# Altium footprint library VF10.PcbLib: 58 footprints (part 4 of 4)
Each footprint in its own frame and in the unit in brackets; x right, y up, seen from the top. Pads: shape width x height; smd on the part's side, far side on the other; paste and mask are expansions set on the pad; w line width, h text height; cw(c..) or ccw(c..) is an arc to the next point about the centre after c.
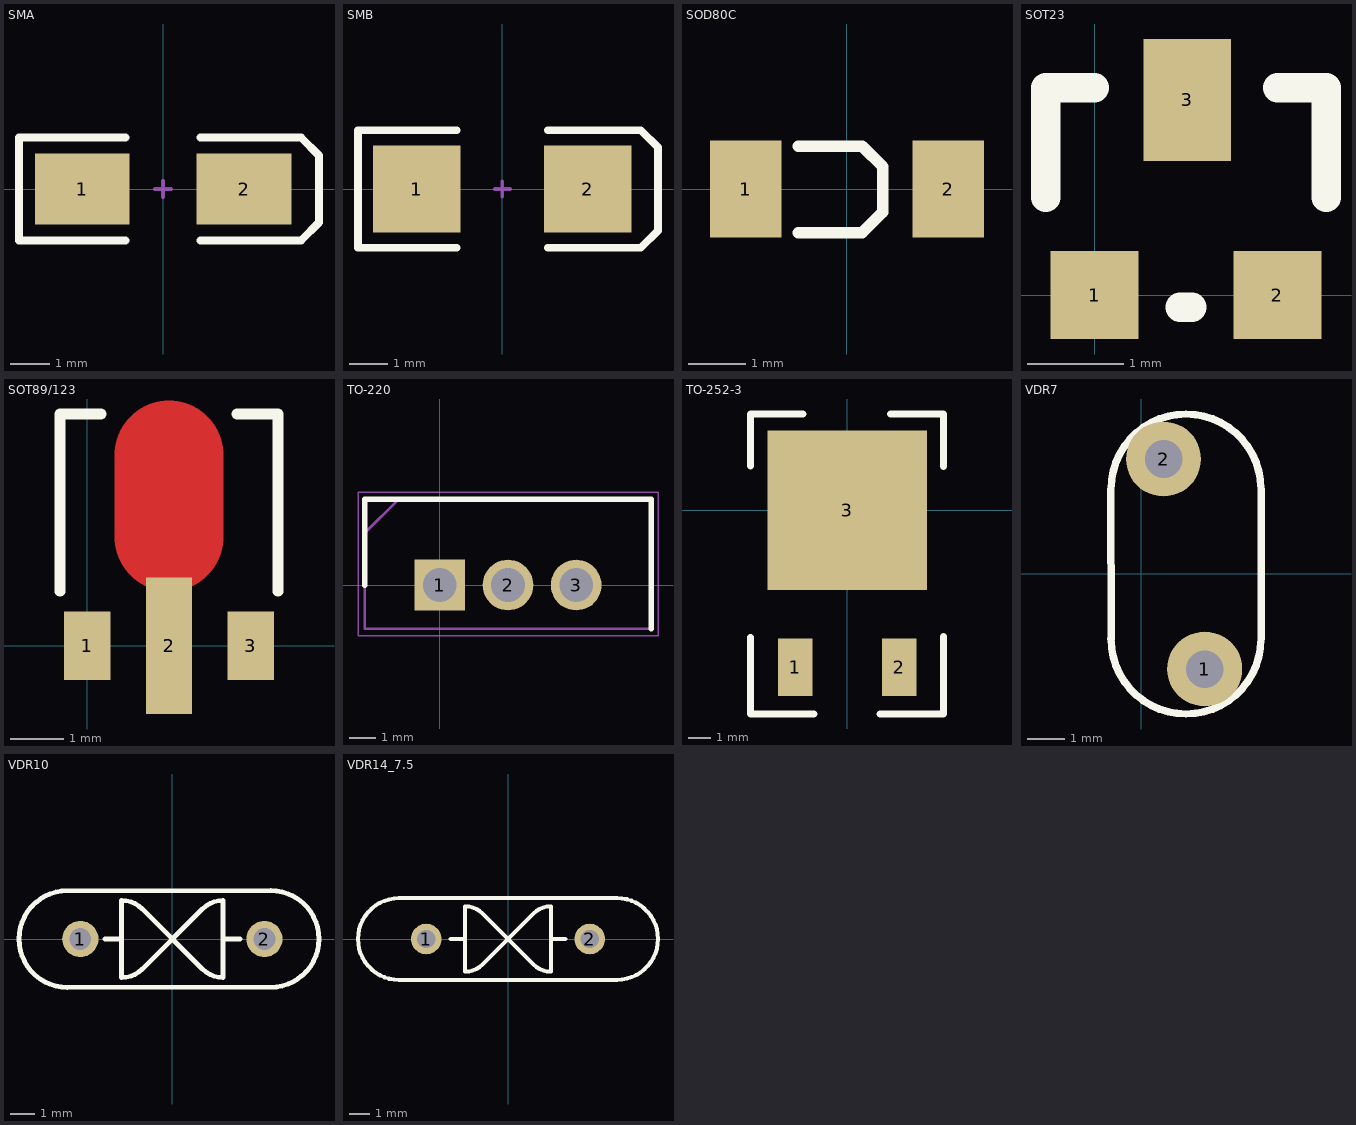
[diagram p3: the footprints below, top view; thin cyan lines are the x and y axes]

## SMA [mm] "DO-214-AC/SMA; 2 C-Bend Leads; Body 5 x 2.7 mm, inc. leads (LxW)"
height 2.44
pads (2):
  rect 2.4x1.8 smd: 1(-2.05,0) 2(2.05,0)
Top Overlay:
  lines w0.2: -0.95,-1.3 -3.65,-1.3 -3.65,1.3 -0.95,1.3 ; 0.95,-1.3 3.5,-1.3 3.95,-0.85 3.95,0.85 3.5,1.3 0.95,1.3
Mechanical 1:
  lines w0.1: -0.2,0 0.2,0 ; 0,-0.2 0,0.2
3D body "MRA4005T1G.stp": height 2.2, standoff 0, extent -2.605,-1.303 2.605,1.302

## SMB [mm] "DO-214-AA/SMB; 2 C-Bend Leads; Body 5.3 x 3.6 mm, inc. leads (LxW)"
height 2.54
pads (2):
  rect 2.3x2.3 smd: 1(-2.25,0) 2(2.25,0)
Top Overlay:
  lines w0.2: -1.2,-1.55 -3.8,-1.55 -3.8,1.55 -1.2,1.55 ; 1.2,-1.55 3.65,-1.55 4.1,-1.1 4.1,1.1 3.65,1.55 1.2,1.55
Mechanical 1:
  lines w0.1: -0.2,0 0.2,0 ; 0,-0.2 0,0.2
3D body "1SMB10CAT3G.stp": height 2.56, standoff 0, extent -2.7,-1.778 2.7,1.777

## SOD80C [mm] "Metal Electrode Face (MELF) Diode; Body 3.5 x 1.6 mm (LxDia)"
height 1.6
pads (2):
  rect 1.25x1.7 smd: 1(-1.775,0) 2(1.775,0)
Top Overlay:
  lines w0.2: -0.851,-0.767 0.265,-0.767 0.627,-0.405 0.627,-0.017 ; -0.85,0.75 0.266,0.75 0.628,0.388 0.628,0
3D body "User Library-MiniMelf-2.STEP": height 1.6, standoff 0, extent -1.82,-0.8 1.88,0.8

## SOT23 [mil]
pads (3):
  rect 36x36 smd: 1(0,0) 2(75,0)
  rect 36x50 smd: 3(38,80)
Top Overlay:
  lines w12: -20,40 -20,85 0,85 ; 35,-5 40,-5 ; 75,85 95,85 95,40

## SOT89/123 [mil]
pads (3):
  rect 34x50 smd: 1(0,0) 3(120,0)
  rect 34x100 smd: 2(60,0)
Top Layer:
  lines w80: 60,80 60,140
Top Overlay:
  lines w8: -20,40 -20,170 10,170 ; 110,170 140,170 140,40
Top Solder:
  lines w84: 60,80 60,140

## TO-220 [mm]
pads (3):
  rect 1.89x1.89 hole 1.26: 1(0,0)
  round 1.89 hole 1.26: 2(2.54,0) 3(5.08,0)
Top Overlay:
  lines w0.2: -2.795,0 -2.795,3.2 7.875,3.2 7.875,-1.63
Mechanical 13:
  lines w0.1: -2.795,1.93 -1.525,3.2 ; -2.795,-1.63 -2.795,3.2 7.875,3.2 7.875,-1.63 -2.795,-1.63
Mechanical 15:
  lines w0.05: -3.045,-1.88 -3.045,3.45 8.125,3.45 8.125,-1.88 -3.045,-1.88
3D body "2N6042.stp": height 18.9, standoff -18.99, extent -2.535,-1.63 7.615,3.2

## TO-252-3 [mil]
pads (3):
  rect 60x100 smd: 1(-90,-272) 2(90,-272)
  rect 276x276 smd: 3(0,0)
Top Overlay:
  lines w12: -168,-220 -168,-353 -58,-353 ; -168,77 -168,167 -77,167 ; 57,-353 167,-353 167,-219 ; 75,167 167,167 167,76

## VDR7 [mm]
pads (2):
  round 2 hole 1: 1(1.693,-2.546) 2(0.593,3.054)
Top Overlay:
  lines w0.2: -0.807,-1.746 ccw(c1.193,-1.746) 3.193,-1.746 3.193,2.254 ccw(c1.193,2.254) -0.807,2.254 -0.807,-1.746

## VDR10 [mm]
pads (2):
  round 1.5 hole 0.9: 1(-3.81,0) 2(3.81,0)
Top Overlay:
  lines w0.2: -4.35,-2.002 cw(c-4.35,-0.002) -4.35,1.998 ; -4.35,-2 4.069,-2 ; -4.35,2 4.069,2 ; -2.8,0 -2.1,0 ; 2.1,0 2.8,0 ; 4.069,-1.998 ccw(c4.069,0.002) 4.069,2.002 ; -2.1,0 -2.1,-1.6 ccw(c-2.1,-0.393) -1.246,-1.246 1.246,1.246 cw(c2.1,0.393) 2.1,1.6 2.1,-1.6 cw(c2.1,-0.393) 1.246,-1.246 -1.246,1.246 ccw(c-2.1,0.393) -2.1,1.6 -2.1,0
3D body "User Library-vdrs10bke.step": height 17, standoff -3, extent -6.25,-4 6.25,4

## VDR14_7.5 [mm]
pads (2):
  round 1.5 hole 0.9: 1(-4,0) 2(4,0)
Top Overlay:
  lines w0.2: -5.339,-2.002 cw(c-5.339,-0.002) -5.339,1.998 ; -5.339,-2 5.339,-2 ; -5.339,2 5.339,2 ; -2.8,0 -2.1,0 ; 2.1,0 2.8,0 ; 5.339,-1.998 ccw(c5.339,0.002) 5.339,2.002 ; -2.1,0 -2.1,1.6 cw(c-2.1,0.393) -1.246,1.246 1.246,-1.246 ccw(c2.1,-0.393) 2.1,-1.6 2.1,1.6 ccw(c2.1,0.393) 1.246,1.246 -1.246,-1.246 cw(c-2.1,-0.393) -2.1,-1.6 -2.1,0
3D body "Varistor.STEP": height -0.5, standoff -17.9, extent -7.4,-1.6 7.4,1.601